# EAGLE library part MP1405 (library lex-library)
POWER
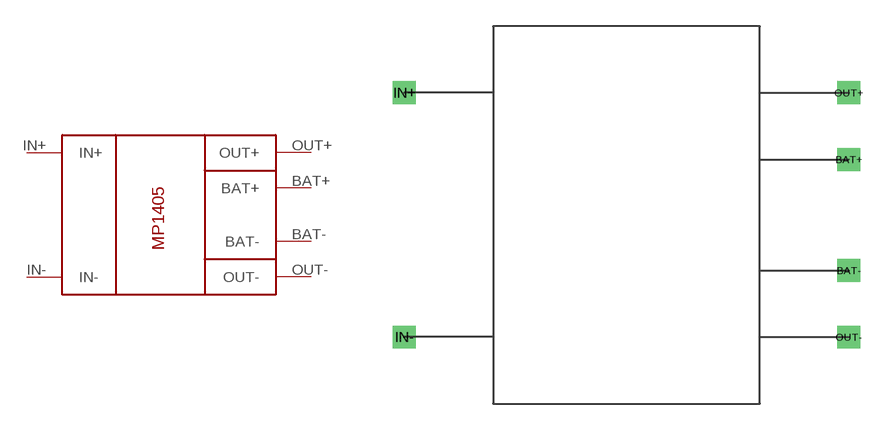
[diagram p0: symbol with the pads of MP1405-PAC; footprint MP1405-PAC]

Designator prefix -

## MP1405  [MP1405-PAC]
BAT+  BAT+
BAT-  BAT-
IN+  IN+
IN-  IN-
OUT+  OUT+
OUT-  OUT-

## Footprint MP1405-PAC (pad centres in mm)
POWER-PAC
drill 0.8 square: BAT+ 20.32,13.97; BAT- 20.32,7.62; IN+ -5.08,17.78; IN- -5.08,3.81; OUT+ 20.32,17.78; OUT- 20.32,3.81